# EAGLE library part RN-41 (library PP_Sensors)
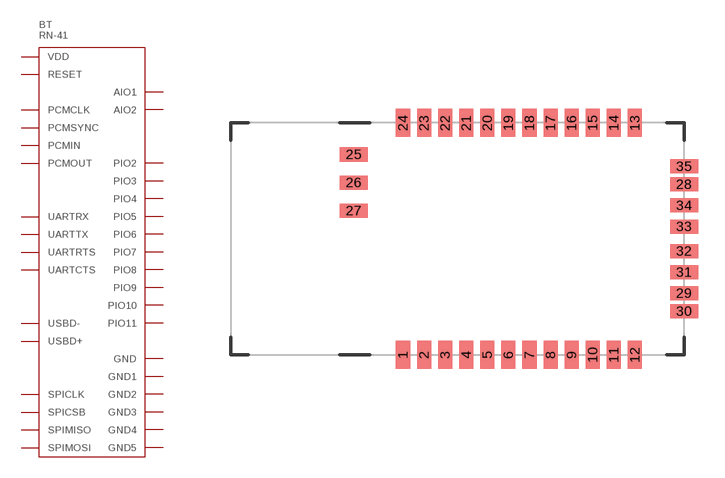
[diagram p2: symbol with the pads of RN-41; footprint RN-41]

Designator prefix BT

## RN-41  [RN-41]
1  GND
2  SPIMOSI
3  PIO6
4  PIO7
5  RESET
6  SPICLK
7  PCMCLK
8  PCMSYNC
9  PCMIN
10  PCMOUT
11  VDD
12  GND1
13  UARTRX
14  UARTTX
15  UARTRTS
16  UARTCTS
17  USBD+
18  USBD-
19  PIO2
20  PIO3
21  PIO5
22  PIO4
23  SPICSB
24  SPIMISO
25  GND2
27  GND3
28  GND4
29  GND5
30  AIO2
31  PIO8
32  PIO9
33  PIO10
34  PIO11
35  AIO1

## Footprint RN-41 (pad centres in mm)
smd 0.8 x 1.6: 1 -2.79,-6.6; 2 -1.59,-6.6; 3 -0.39,-6.6; 4 0.81,-6.6; 5 2.01,-6.6; 6 3.21,-6.6; 7 4.41,-6.6; 8 5.61,-6.6; 9 6.81,-6.6; 10 8.01,-6.6; 11 9.21,-6.6; 12 10.41,-6.6; 13 10.41,6.6; 14 9.21,6.6; 15 8.01,6.6; 16 6.81,6.6; 17 5.61,6.6; 18 4.41,6.6; 19 3.21,6.6; 20 2.01,6.6; 21 0.81,6.6; 22 -0.39,6.6; 23 -1.59,6.6; 24 -2.79,6.6
smd 1.6 x 0.8: 25 -5.59,4.8; 26 -5.59,3.2; 27 -5.59,1.6; 28 13.21,3.1; 29 13.21,-3.1; 30 13.21,-4.122; 31 13.21,-1.9; 32 13.21,-0.7; 33 13.21,0.7; 34 13.21,1.9; 35 13.21,4.122